# EAGLE library part DUE_SOCKET (library MISC)
A socket for the Arduino DUE board.
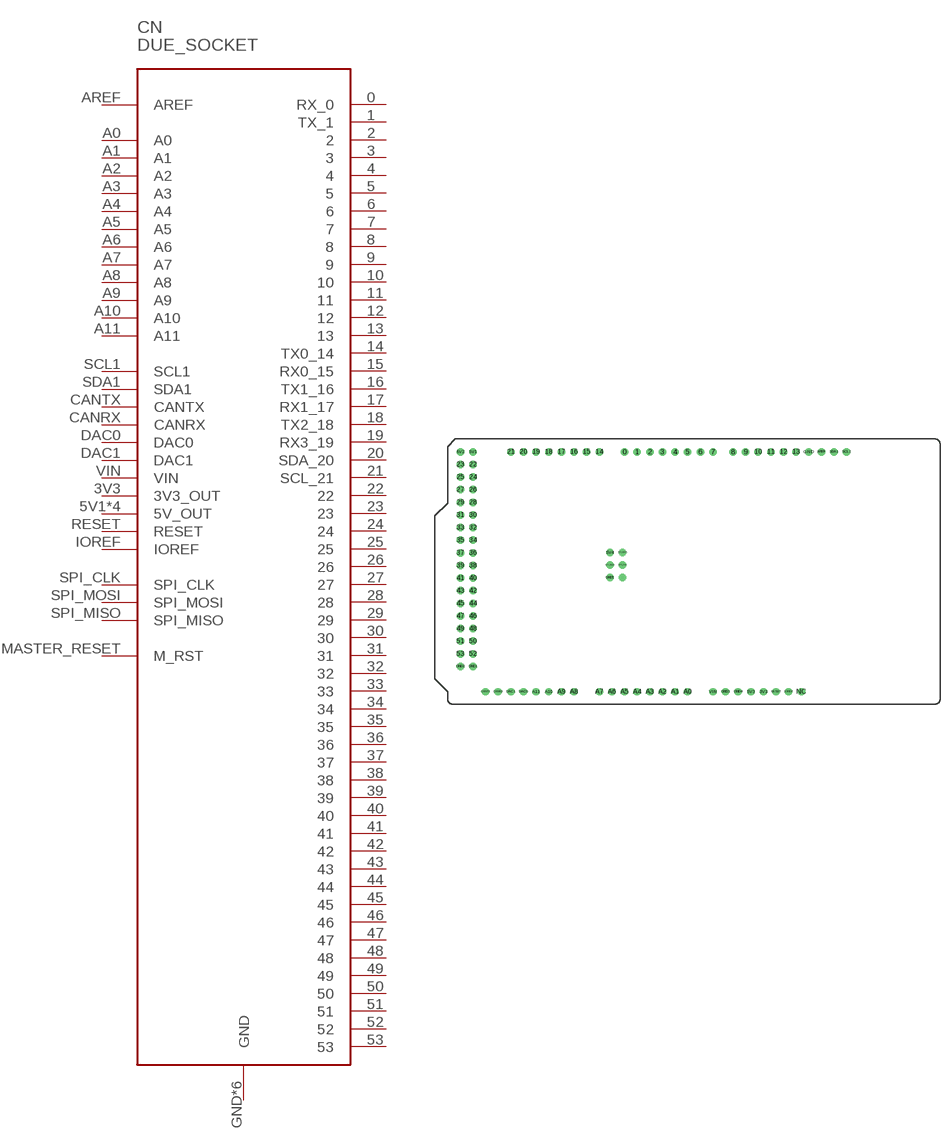
[diagram p7: symbol with the pads of ARDUINODUESOCKET; footprint ARDUINODUESOCKET]

Designator prefix CN

## DUE_SOCKET (HEIGHT: 8; PRICE_PER: 0; VALUE: DUE Socket)  [ARDUINODUESOCKET]
0  RX_0
1  TX_1
2  2
3  3
3V3  3V3_OUT
4  4
5  5
5V1  5V_OUT
5V2  5V_OUT
5V3  5V_OUT
5V4  5V_OUT
6  6
7  7
8  8
9  9
10  10
11  11
12  12
13  13
14  TX0_14
15  RX0_15
16  TX1_16
17  RX1_17
18  TX2_18
19  RX3_19
20  SDA_20
21  SCL_21
22  22
23  23
24  24
25  25
26  26
27  27
28  28
29  29
30  30
31  31
32  32
33  33
34  34
35  35
36  36
37  37
38  38
39  39
40  40
41  41
42  42
43  43
44  44
45  45
46  46
47  47
48  48
49  49
50  50
51  51
52  52
53  53
A0  A0
A1  A1
A2  A2
A3  A3
A4  A4
A5  A5
A6  A6
A7  A7
A8  A8
A9  A9
A10  A10
A11  A11
AREF  AREF
CANRX  CANRX
CANTX  CANTX
DAC0  DAC0
DAC1  DAC1
GND  GND
GND1  GND
GND2  GND
GND3  GND
GND4  GND
GND5  GND
IOREF  IOREF
MASTER_RESET  M_RST
RESET  RESET
SCL1  SCL1
SDA1  SDA1
SPI_CLK  SPI_CLK
SPI_MISO  SPI_MISO
SPI_MOSI  SPI_MOSI
VIN  VIN

## Footprint ARDUINODUESOCKET (pad centres in mm)
drill 1: 0 -12.67,25.34; 1 -10.13,25.34; 2 -7.59,25.34; 3 -5.05,25.34; 3V3 15.27,-22.92; 4 -2.51,25.34; 5 0.03,25.34; 5V1 -43.15,25.34; 5V2 -45.69,25.34; 5V3 12.73,-22.92; 5V4 -15.6,5.1; 6 2.57,25.34; 7 5.11,25.34; 8 9.15,25.34; 9 11.69,25.34; 10 14.23,25.34; 11 16.77,25.34; 12 19.31,25.34; 13 21.85,25.34; 14 -17.75,25.34; 15 -20.29,25.34; 16 -22.83,25.34; 17 -25.37,25.34; 18 -27.91,25.34; 19 -30.45,25.34; 20 -32.99,25.34; 21 -35.53,25.34; 22 -43.15,22.8; 23 -45.69,22.8; 24 -43.15,20.26; 25 -45.69,20.26; 26 -43.15,17.72; 27 -45.69,17.72; 28 -43.15,15.18; 29 -45.69,15.18; 30 -43.15,12.64; 31 -45.69,12.64; 32 -43.15,10.1; 33 -45.69,10.1; 34 -43.15,7.56; 35 -45.69,7.56; 36 -43.15,5.02; 37 -45.69,5.02; 38 -43.15,2.48; 39 -45.69,2.48; 40 -43.15,-0.06; 41 -45.69,-0.06; 42 -43.15,-2.6; 43 -45.69,-2.6; 44 -43.15,-5.14; 45 -45.69,-5.14; 46 -43.15,-7.68; 47 -45.69,-7.68; 48 -43.15,-10.22; 49 -45.69,-10.22; 50 -43.15,-12.76; 51 -45.69,-12.76; 52 -43.15,-15.3; 53 -45.69,-15.3; A0 0.03,-22.92; A1 -2.51,-22.92; A2 -5.05,-22.92; A3 -7.59,-22.92; A4 -10.13,-22.92; A5 -12.67,-22.92; A6 -15.21,-22.92; A7 -17.75,-22.92; A8 -22.83,-22.92; A9 -25.37,-22.92; A10 -27.91,-22.92; A11 -30.45,-22.92; AREF 26.93,25.34; CANRX -38.07,-22.92; CANTX -40.61,-22.92; DAC0 -32.99,-22.92; DAC1 -35.53,-22.92; GND 24.39,25.34; GND1 -43.15,-17.84; GND2 -45.69,-17.84; GND3 7.65,-22.92; GND4 10.19,-22.92; GND5 -15.6,0.02; IOREF 20.35,-22.92; MASTER_RESET -13.06,0.02; NC 22.89,-22.92; RESET 17.81,-22.92; SCL1 32.01,25.34; SDA1 29.47,25.34; SPI_CLK -13.06,2.56; SPI_MISO -13.06,5.1; SPI_MOSI -15.6,2.56; VIN 5.11,-22.92